# EAGLE library part ATTINY85 (library Pinoccio)
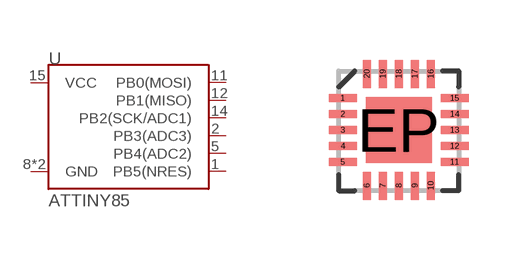
[diagram p45: symbol with the pads of QFN-20; footprint QFN-20]

Designator prefix -

## ATTINY85  [QFN-20]
1  PB5(NRES)
2  PB3(ADC3)
5  PB4(ADC2)
8  GND
11  PB0(MOSI)
12  PB1(MISO)
14  PB2(SCK/ADC1)
15  VCC
EP  GND

## Footprint QFN-20 (pad centres in mm)
smd 0.7 x 0.2: 1 -1.4,0.8; 2 -1.4,0.4; 3 -1.4,0; 4 -1.4,-0.4; 5 -1.4,-0.8; 11 1.4,-0.8; 12 1.4,-0.4; 13 1.4,0; 14 1.4,0.4; 15 1.4,0.8
smd 0.2 x 0.7: 6 -0.8,-1.4; 7 -0.4,-1.4; 8 0,-1.4; 9 0.4,-1.4; 10 0.8,-1.4; 16 0.8,1.4; 17 0.4,1.4; 18 0,1.4; 19 -0.4,1.4; 20 -0.8,1.4
smd 1.65 x 1.65: EP 0,0